# Altium footprint library Nuc977-Board.PcbLib: 39 footprints (part 1 of 3)
Each footprint in its own frame and in the unit in brackets; x right, y up, seen from the top. Pads: shape width x height; smd on the part's side, far side on the other; paste and mask are expansions set on the pad; w line width, h text height; cw(c..) or ccw(c..) is an arc to the next point about the centre after c.
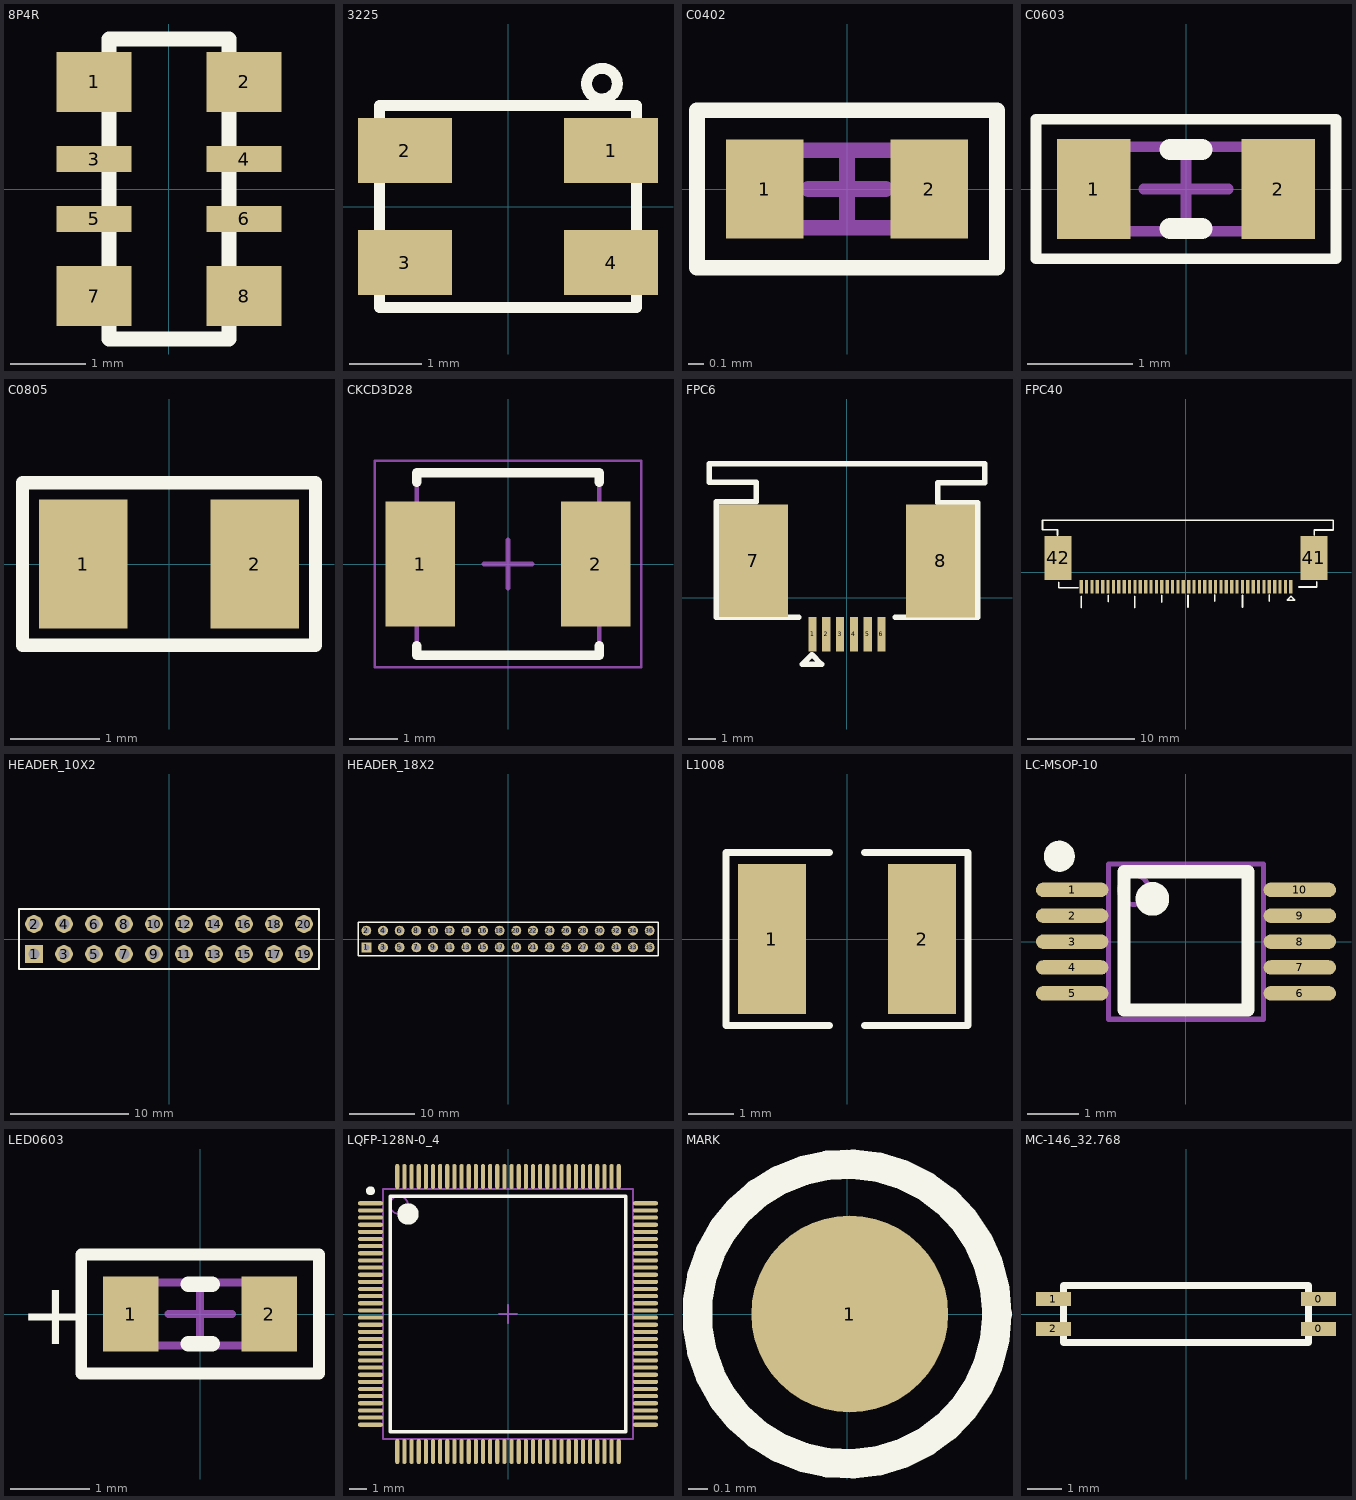
[diagram p0: the footprints below, top view; thin cyan lines are the x and y axes]

## 8P4R [mm]
pads (8):
  rect 1x0.8 smd: 1(-1,1.43) 2(1,1.43) 7(-1,-1.43) 8(1,-1.43)
  rect 1x0.35 smd: 3(-1,0.4) 4(1,0.4) 5(-1,-0.4) 6(1,-0.4)
Top Overlay:
  lines w0.2: -0.8,-2 -0.8,2 0.8,2 0.8,-2 -0.8,-2

## 3225 [mm]
pads (4):
  rect 1.3x0.9 smd: 1(1.425,0.775) 2(-1.425,0.775) 3(-1.425,-0.775) 4(1.425,-0.775)
Top Overlay:
  circle w0.152: c1.3,1.7 r0.212
  lines w0.152: -1.778,-1.397 1.778,-1.397 1.778,1.397 -1.778,1.397 -1.778,-1.397
3D body "User Library-3225-1.step": height 0.61, standoff 0, extent -1.65,-1.3 1.55,1.2

## C0402 [mm]
height 0.9
pads (2):
  rect 0.5x0.64 smd: 1(-0.53,0) 2(0.53,0)
Top Overlay:
  lines w0.1: -0.965,-0.508 -0.965,0.508 0.965,0.508 0.965,-0.508 -0.965,-0.508
Mechanical 13:
  lines w0.1: -0.5,-0.25 0.5,-0.25 0.5,0.25 -0.5,0.25 -0.5,-0.25
Mechanical 15:
  lines w0.1: -0.25,0 0.25,0 ; 0,-0.25 0,0.25
3D body: height 0.9, standoff 0, extent 0.35,-0.25 0.5,0.25
3D body: height 0.9, standoff 0, extent -0.5,-0.25 -0.35,0.25
3D body: height 0.9, standoff 0, extent -0.35,-0.25 0.35,0.25

## C0603 [mm] "Chip Capacitor, 2-Leads, Body 1.60x0.80mm, IPC Medium Density"
height 0.9
pads (2):
  rect 0.7x0.95 smd: 1(-0.875,0) 2(0.875,0)
Top Overlay:
  lines w0.1: -1.422,-0.66 1.422,-0.66 1.422,0.66 -1.422,0.66 -1.422,-0.66
  lines w0.2: -0.15,-0.375 0.15,-0.375 ; -0.15,0.375 0.15,0.375
Mechanical 13:
  lines w0.1: -0.8,-0.4 -0.8,0.4 0.8,0.4 0.8,-0.4 -0.8,-0.4
Mechanical 15:
  lines w0.1: -0.4,0 0.4,0 ; 0,-0.4 0,0.4
3D body: height 0.9, standoff 0, extent -0.6,-0.4 0.6,0.4
3D body: height 0.9, standoff 0, extent -0.8,-0.4 -0.6,0.4
3D body: height 0.9, standoff 0, extent 0.6,-0.4 0.8,0.4

## C0805 [mm]
pads (2):
  rect 1x1.45 smd: 1(-0.965,0) 2(0.965,0)
Top Overlay:
  lines w0.15: -1.651,-0.914 1.651,-0.914 1.651,0.914 -1.651,0.914 -1.651,-0.914
3D body "C0805.step": height 0.6, standoff 0, extent -1,-0.625 1,0.625

## CKCD3D28 [mm] "Precision Wire Wound Inductor, 2-Leads, Body 3.80x3.80mm, IPC Medium Density"
height 2.29
pads (2):
  rect 1.45x2.6 smd: 1(-1.825,0) 2(1.825,0)
Top Overlay:
  lines w0.2: -1.9,-1.7 -1.9,-1.9 1.9,-1.9 1.9,-1.7 ; -1.9,1.7 -1.9,1.9 1.9,1.9 1.9,1.7
Mechanical 13:
  lines w0.1: -1.9,-1.9 -1.9,1.9 1.9,1.9 1.9,-1.9 -1.9,-1.9
Mechanical 15:
  lines w0.05: -2.775,-2.15 -2.775,2.15 2.775,2.15 2.775,-2.15 -2.775,-2.15
  lines w0.1: -0.5,0 0.5,0 ; 0,-0.5 0,0.5
3D body: height 2.29, standoff 0, extent -1.9,-1.9 1.9,1.9

## FPC6 [mm]
pads (8):
  rect 0.3x1.25 smd: 1(-1.25,-1.338) 2(-0.75,-1.338) 3(-0.25,-1.338) 4(0.25,-1.338) 5(0.75,-1.338) 6(1.25,-1.338)
  rect 2.5x4.1 smd: 7(-3.4,1.338) 8(3.4,1.332)
Top Overlay:
  lines w0.2: -1.75,-0.713 -4.75,-0.713 -4.75,3.483 -3.29,3.483 -3.29,4.192 -5,4.192 -5,4.862 5,4.862 5,4.162 3.29,4.162 3.29,3.443 4.75,3.443 4.75,-0.713 1.75,-0.713 ; -1.63,-2.428 -1.276,-2.074 -0.923,-2.428 -1.63,-2.428

## FPC40 [mm]
pads (42):
  rect 0.3x1.25 smd: 1(9.75,-1.338) 2(9.25,-1.338) 3(8.75,-1.338) 4(8.25,-1.338) 5(7.75,-1.338) 6(7.25,-1.338) 7(6.75,-1.338) 8(6.25,-1.338) 9(5.75,-1.338) 10(5.25,-1.338) 11(4.75,-1.338) 12(4.25,-1.338) 13(3.75,-1.338) 14(3.25,-1.338) 15(2.75,-1.338) 16(2.25,-1.338) 17(1.75,-1.338) 18(1.25,-1.338) 19(0.75,-1.338) 20(0.25,-1.338) 21(-0.25,-1.338) 22(-0.75,-1.338) 23(-1.25,-1.338) 24(-1.75,-1.338) 25(-2.25,-1.338) 26(-2.75,-1.338) 27(-3.25,-1.338) 28(-3.75,-1.338) 29(-4.25,-1.338) 30(-4.75,-1.338) 31(-5.25,-1.338) 32(-5.75,-1.338) 33(-6.25,-1.338) 34(-6.75,-1.338) 35(-7.25,-1.338) 36(-7.75,-1.338) 37(-8.25,-1.338) 38(-8.75,-1.338) 39(-9.25,-1.338) 40(-9.75,-1.338)
  rect 2.5x4.1 smd: 41(11.9,1.338) 42(-11.9,1.338)
Top Overlay:
  lines w0.152: -11.95,3.463 -11.95,3.962 -13.35,3.962 -13.35,4.862 13.7,4.862 13.7,3.942 11.94,3.942 11.94,3.463 ; -11.85,-0.938 -11.85,-1.438 -10.05,-1.438 ; -9.74,-3.298 -9.74,-2.208 ; -7.24,-2.748 -7.24,-2.128 ; -4.77,-3.308 -4.77,-2.218 ; -2.27,-2.758 -2.27,-2.138 ; 0.18,-3.237 0.18,-2.148 ; 2.68,-2.688 2.68,-2.068 ; 5.25,-3.237 5.25,-2.148 ; 7.75,-2.688 7.75,-2.068 ; 10.47,-1.358 12.17,-1.358 12.17,-0.858 ; 9.413,-2.588 10.12,-2.588 9.766,-2.234 9.413,-2.588
3D body "ffc_fpc_affc20-40-050-shb-t.stp": height 2.15, standoff 0.05, extent -12.8,-1.111 12.7,4.225

## HEADER_10X2 [mm]
pads (20):
  rect 1.5x1.5 hole 0.9: 1(-11.43,-1.27)
  round 1.5 hole 0.9: 2(-11.43,1.27) 3(-8.89,-1.27) 4(-8.89,1.27) 5(-6.35,-1.27) 6(-6.35,1.27) 7(-3.81,-1.27) 8(-3.81,1.27) 9(-1.27,-1.27) 10(-1.27,1.27) 11(1.27,-1.27) 12(1.27,1.27) 13(3.81,-1.27) 14(3.81,1.27) 15(6.35,-1.27) 16(6.35,1.27) 17(8.89,-1.27) 18(8.89,1.27) 19(11.43,-1.27) 20(11.43,1.27)
Top Overlay:
  lines w0.2: -12.7,-2.54 12.7,-2.54 12.7,2.54 -12.7,2.54 -12.7,-2.54

## HEADER_18X2 [mm]
pads (36):
  rect 1.5x1.5 hole 0.9: 1(-21.59,-1.27)
  round 1.5 hole 0.9: 2(-21.59,1.27) 3(-19.05,-1.27) 4(-19.05,1.27) 5(-16.51,-1.27) 6(-16.51,1.27) 7(-13.97,-1.27) 8(-13.97,1.27) 9(-11.43,-1.27) 10(-11.43,1.27) 11(-8.89,-1.27) 12(-8.89,1.27) 13(-6.35,-1.27) 14(-6.35,1.27) 15(-3.81,-1.27) 16(-3.81,1.27) 17(-1.27,-1.27) 18(-1.27,1.27) 19(1.27,-1.27) 20(1.27,1.27) 21(3.81,-1.27) 22(3.81,1.27) 23(6.35,-1.27) 24(6.35,1.27) 25(8.89,-1.27) 26(8.89,1.27) 27(11.43,-1.27) 28(11.43,1.27) 29(13.97,-1.27) 30(13.97,1.27) 31(16.51,-1.27) 32(16.51,1.27) 33(19.05,-1.27) 34(19.05,1.27) 35(21.59,-1.27) 36(21.59,1.27)
Top Overlay:
  lines w0.2: -22.86,-2.54 22.86,-2.54 22.86,2.54 -22.86,2.54 -22.86,-2.54

## L1008 [mm]
pads (2):
  rrect0% 1.5x3.3 smd: 1(-1.651,0) 2(1.651,0)
Top Overlay:
  lines w0.152: -0.381,-1.905 -2.667,-1.905 -2.667,1.905 -0.381,1.905 ; 0.381,-1.905 2.667,-1.905 2.667,1.905 0.381,1.905
3D body "User Library-INDM2520X190N.step": height 1.8, standoff 0, extent -1.375,-1 1.125,1

## LC-MSOP-10 [mm]
pads (10):
  oval 1.4x0.28 smd mask+0.051: 1(-2.2,1) 2(-2.2,0.5) 3(-2.2,0) 4(-2.2,-0.5) 5(-2.2,-1) 6(2.2,-1) 7(2.2,-0.5) 8(2.2,0) 9(2.2,0.5) 10(2.2,1)
Top Overlay:
  circle w0.4: c-0.65,0.825 r0.125
  circle w0.3: c-2.45,1.65 r0.15
  lines w0.254: -1.2,-1.325 1.2,-1.325 1.2,1.35 -1.2,1.35 -1.2,-1.325
Mechanical 13:
  circle w0.1: c-1,1 r0.283
  lines w0.1: -1.5,-1.5 -1.5,1.5 1.5,1.5 1.5,-1.5 -1.5,-1.5

## LED0603 [mm] "Chip Capacitor, 2-Leads, Body 1.60x0.80mm, IPC Medium Density"
height 0.9
pads (2):
  rect 0.7x0.95 smd: 1(-0.875,0) 2(0.875,0)
Top Overlay:
  lines w0.15: -1.5,-0.75 -1.5,0.75 1.5,0.75 1.5,-0.75 -1.5,-0.75
  lines w0.2: -0.15,-0.375 0.15,-0.375 ; -0.15,0.375 0.15,0.375
  text "+" at -2.286,-0.381 h0.8
Mechanical 13:
  lines w0.1: -0.8,-0.4 0.8,-0.4 0.8,0.4 -0.8,0.4 -0.8,-0.4
Mechanical 15:
  lines w0.1: -0.4,0 0.4,0 ; 0,-0.4 0,0.4
3D body: height 0.9, standoff 0, extent 0.6,-0.4 0.8,0.4
3D body: height 0.9, standoff 0, extent -0.8,-0.4 -0.6,0.4
3D body: height 0.9, standoff 0, extent -0.6,-0.4 0.6,0.4

## LQFP-128N-0_4 [mm] "SQFP, 128-Leads, Body 14.00x14.00mm, Pitch 0.40mm, IPC Medium Density"
height 2.45
pads (128):
  oval 1.4x0.23 smd: 1(-7.7,6.2) 2(-7.7,5.8) 3(-7.7,5.4) 4(-7.7,5) 5(-7.7,4.6) 6(-7.7,4.2) 7(-7.7,3.8) 8(-7.7,3.4) 9(-7.7,3) 10(-7.7,2.6) 11(-7.7,2.2) 12(-7.7,1.8) 13(-7.7,1.4) 14(-7.7,1) 15(-7.7,0.6) 16(-7.7,0.2) 17(-7.7,-0.2) 18(-7.7,-0.6) 19(-7.7,-1) 20(-7.7,-1.4) 21(-7.7,-1.8) 22(-7.7,-2.2) 23(-7.7,-2.6) 24(-7.7,-3) 25(-7.7,-3.4) 26(-7.7,-3.8) 27(-7.7,-4.2) 28(-7.7,-4.6) 29(-7.7,-5) 30(-7.7,-5.4) 31(-7.7,-5.8) 32(-7.7,-6.2) 65(7.7,-6.2) 66(7.7,-5.8) 67(7.7,-5.4) 68(7.7,-5) 69(7.7,-4.6) 70(7.7,-4.2) 71(7.7,-3.8) 72(7.7,-3.4) 73(7.7,-3) 74(7.7,-2.6) 75(7.7,-2.2) 76(7.7,-1.8) 77(7.7,-1.4) 78(7.7,-1) 79(7.7,-0.6) 80(7.7,-0.2) 81(7.7,0.2) 82(7.7,0.6) 83(7.7,1) 84(7.7,1.4) 85(7.7,1.8) 86(7.7,2.2) 87(7.7,2.6) 88(7.7,3) 89(7.7,3.4) 90(7.7,3.8) 91(7.7,4.2) 92(7.7,4.6) 93(7.7,5) 94(7.7,5.4) 95(7.7,5.8) 96(7.7,6.2)
  oval 0.23x1.4 smd: 33(-6.2,-7.7) 34(-5.8,-7.7) 35(-5.4,-7.7) 36(-5,-7.7) 37(-4.6,-7.7) 38(-4.2,-7.7) 39(-3.8,-7.7) 40(-3.4,-7.7) 41(-3,-7.7) 42(-2.6,-7.7) 43(-2.2,-7.7) 44(-1.8,-7.7) 45(-1.4,-7.7) 46(-1,-7.7) 47(-0.6,-7.7) 48(-0.2,-7.7) 49(0.2,-7.7) 50(0.6,-7.7) 51(1,-7.7) 52(1.4,-7.7) 53(1.8,-7.7) 54(2.2,-7.7) 55(2.6,-7.7) 56(3,-7.7) 57(3.4,-7.7) 58(3.8,-7.7) 59(4.2,-7.7) 60(4.6,-7.7) 61(5,-7.7) 62(5.4,-7.7) 63(5.8,-7.7) 64(6.2,-7.7) 97(6.2,7.7) 98(5.8,7.7) 99(5.4,7.7) 100(5,7.7) 101(4.6,7.7) 102(4.2,7.7) 103(3.8,7.7) 104(3.4,7.7) 105(3,7.7) 106(2.6,7.7) 107(2.2,7.7) 108(1.8,7.7) 109(1.4,7.7) 110(1,7.7) 111(0.6,7.7) 112(0.2,7.7) 113(-0.2,7.7) 114(-0.6,7.7) 115(-1,7.7) 116(-1.4,7.7) 117(-1.8,7.7) 118(-2.2,7.7) 119(-2.6,7.7) 120(-3,7.7) 121(-3.4,7.7) 122(-3.8,7.7) 123(-4.2,7.7) 124(-4.6,7.7) 125(-5,7.7) 126(-5.4,7.7) 127(-5.8,7.7) 128(-6.2,7.7)
Top Overlay:
  circle w0.6: c-5.6,5.6 r0.3
  circle w0.25: c-7.7,6.9 r0.125
  lines w0.2: -6.6,-6.6 6.6,-6.6 6.6,6.6 -6.6,6.6 -6.6,-6.6
Mechanical 13:
  circle w0.1: c-6.1,6.1 r0.5
  lines w0.1: -7,-7 7,-7 7,7 -7,7 -7,-7
Mechanical 15:
  lines w0.1: -0.5,0 0.5,0 ; 0,-0.5 0,0.5
3D body: height 2.45, standoff 0.25, extent -7,-7 7,7

## MARK [mm]
pads (1):
  round 1 smd: 1(0.014,0)
Top Overlay:
  circle w0.15: c0,0 r0.762

## MC-146_32.768 [mm]
pads (4):
  rect 1x0.4 smd: 0(3.8,-0.425) 0(3.8,0.425) 1(-3.8,0.425) 2(-3.8,-0.425)
Top Overlay:
  lines w0.2: -3.505,-0.813 -3.505,0.813 3.505,0.813 3.505,-0.813 -3.505,-0.813